# Altium schematic symbol library Python_Imaging_1.SCHLIB: 20 symbols
Pins are listed as number, name and electrical type; pins without a type are passive.

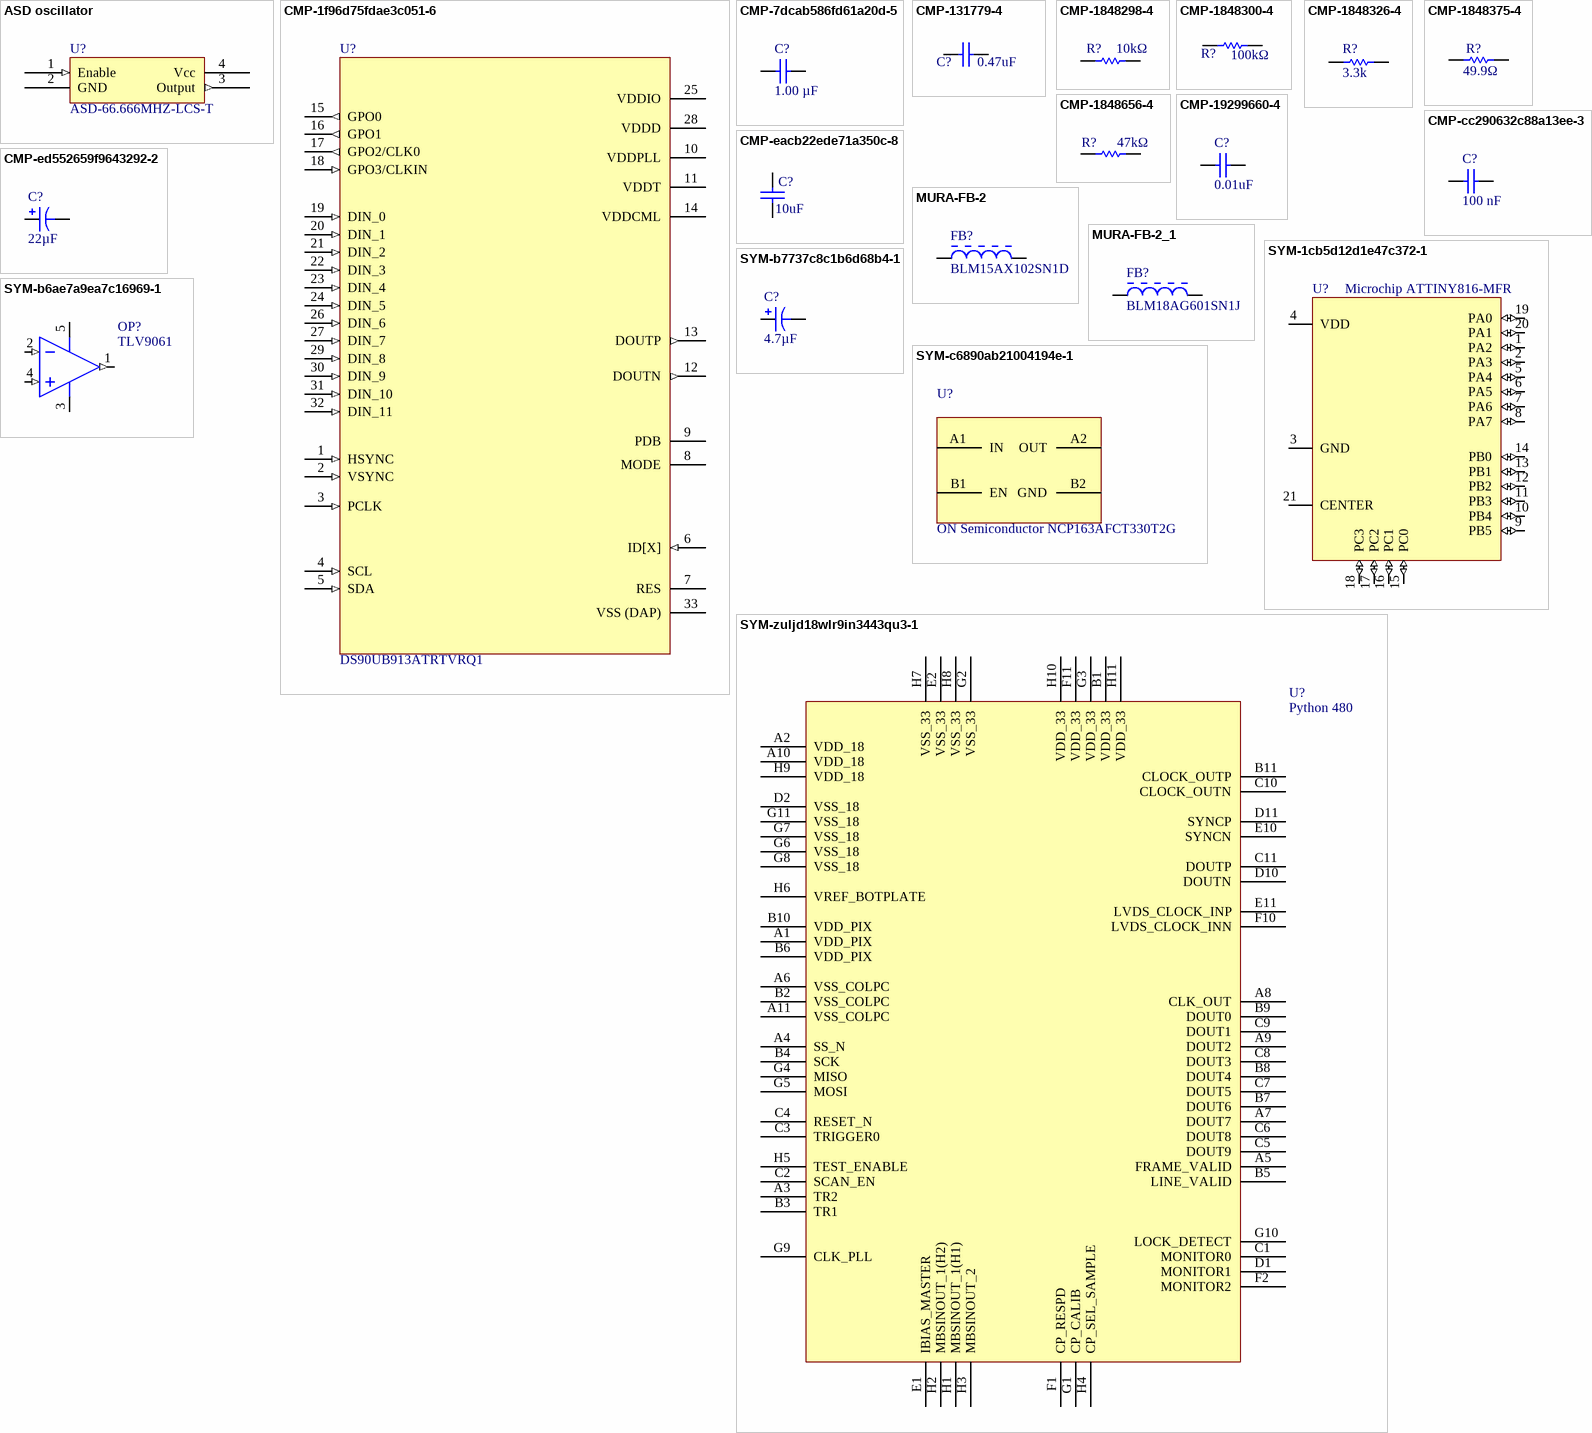
[diagram p0: symbols ASD oscillator to SYM-zuljd18wlr9in3443qu3-1]

## ASD oscillator
designator U?, comment ASD-66.666MHZ-LCS-T
66.666MHz XO (Standard) HCMOS Oscillator 3.3V Enable/Disable 4-SMD, No Lead
footprint ASD
pins: 1 Enable (in), 2 GND (power), 3 Output (out), 4 Vcc (power)

## CMP-1f96d75fdae3c051-6
designator U?, comment DS90UB913ATRTVRQ1
25-100MHz 10/12-Bit FPD-Link III SERIALIZER 32-WQFN -40 to 105; Octopart URL: http://octopart.com/ds90ub913atrtvrq1-texas+instruments-29614099; Packaging: Reel; RoHS: Compliant; Case/Package: WQFN; Number of Pins: 32
footprint PCB-l2nnig1h4ckv44w98gav-1
pins: 1 HSYNC (in), 2 VSYNC (in), 3 PCLK (in), 4 SCL (in), 5 SDA (in), 6 ID[X] (in), 7 RES (power), 8 MODE, 9 PDB, 10 VDDPLL (power), 11 VDDT (power), 12 DOUTN (out), 13 DOUTP (out), 14 VDDCML (power), 15 GPO0 (out), 16 GPO1 (out), 17 GPO2/CLK0 (out), 18 GPO3/CLKIN (in), 19 DIN_0 (in), 20 DIN_1 (in), 21 DIN_2 (in), 22 DIN_3 (in), 23 DIN_4 (in), 24 DIN_5 (in), 25 VDDIO (power), 26 DIN_6 (in), 27 DIN_7 (in), 28 VDDD (power), 29 DIN_8 (in), 30 DIN_9 (in), 31 DIN_10 (in), 32 DIN_11 (in), 33 VSS (DAP) (power)

## CMP-7dcab586fd61a20d-5
designator C?, comment Capacitance: 1.00 µF  (hidden comment: Murata GRM033R60J105MEA2D)
Multilayer Ceramic Capacitor, GRM Series, 1 uF, 20%, X5R, 6.3 V, 0201 [0603 Metric]; Case/Package (SI): 0603; Dielectric Characteristic: X5R; Size-Length: 600 µm; OctopartID: 7dcab586fd61a20d
footprint PCB-v6eq6etc9p7u7qdkgnno-1
pins: 1, 2

## CMP-131779-4
designator C?, comment Capacitance: 0.47uF  (hidden comment: Murata GRM033R60J473KE19D)
Multilayer Ceramic Capacitors MLCC - SMD/SMT 0201 0.047uF 6.3volts X5R 10%; Case/Package (SI): 0603; Voltage Rating (DC): 6.3 V; Capacitance Tolerance: ±10%; Dielectric Characteristic: X5R; RoHS: Compliant; Size-Length: 0.0006 m; Size-Width: 0.0003 m
footprint PCB-v6eq6etc9p7u7qdkgnno-1 (Footprint - Murata GRM033R60J105MEA2D)
footprint CAPC0603X33X15NL03T05
footprint CAPC0603X33X15ML03T05
footprint PCB-087rqtkr6w08eq1n0ce2-1 (Footprint - Murata GRM033R60J473KE19D)
footprint CAPC0603X33X15LL03T05
pins: 1, 2
1 alternate drawing of the same symbol

## CMP-1848298-4
designator R?, comment Resistance: 10kΩ  (hidden comment: Panasonic ERJ-1GEJ103C)
Res Thick Film 0201 10K Ohm 5% 0.05W(1/20W) ±200ppm/C Molded SMD Paper T/R; Lead-Free Status: Lead Free; Voltage Rating (DC): 25.0 V; Case/Package: 0201; Lifecycle Status: Not Listed by Manufacturer; Mounting Style: Surface Mount; Octopart Url: https://octopart.com/erj-1gej103c-panasonic-39841918; Power Rating: 0.05 W; Resistance Tolerance: ±5%; RoHS: Compliant; Size-Height: 0.00023 m; Size-Length: 0.0006 m; Size-Width: 0.0003 m
footprint RESC0603X26X15LL03T05
footprint PCB-7g93mzch2qc2q3jid3ok-1 (Footprint - Panasonic ERJ-1GEF1822C)
footprint RESC0603X26X15ML03T05
footprint RESC0603X26X15NL03T05
footprint PCB-98mrcjv8t9afhsy7j8rk-1 (Footprint - Panasonic ERJ-1GEJ103C)
pins: 1, 2
1 alternate drawing of the same symbol

## CMP-1848300-4
designator R?, comment Resistance: 100kΩ  (hidden comment: Panasonic ERJ-1GEJ104C)
Res Thick Film 0201 100K Ohm 5% 1/20W ±200ppm/C Molded SMD Pressed Carrier T/R; Lifecycle Status: Not Listed by Manufacturer; Octopart Url: https://octopart.com/erj-1gej104c-panasonic-55411467; Size-Height: 0.00023 m; Size-Width: 0.0003 m
footprint RESC0603X26X15LL03T05
footprint PCB-lo47jc2cu2738u5pgzfa-1 (Footprint - Panasonic ERJ-1GEJ104C)
footprint RESC0603X26X15NL03T05
footprint RESC0603X26X15ML03T05
footprint PCB-7g93mzch2qc2q3jid3ok-1 (Footprint - Panasonic ERJ-1GEF1822C)
pins: 1, 2
1 alternate drawing of the same symbol

## CMP-1848326-4
designator R?, comment Resistance: 3.3k  (hidden comment: Panasonic ERJ-1GEJ332C)
Res Thick Film 0201 3.3K Ohm 5% 1/20W ±200ppm/C Molded SMD Paper T/R; Resistance Tolerance: ±5%; Size-Height: 0.00023 m
footprint RESC0603X26X15NL03T05
footprint RESC0603X26X15LL03T05
footprint PCB-7g93mzch2qc2q3jid3ok-1 (Footprint - Panasonic ERJ-1GEF1822C)
footprint RESC0603X26X15ML03T05
footprint PCB-ejq2og6ioiyzx1xtrvfp-1 (Footprint - Panasonic ERJ-1GEJ332C)
pins: 1, 2
1 alternate drawing of the same symbol

## CMP-1848375-4
designator R?, comment Resistance: 49.9Ω  (hidden comment: Panasonic ERJ-1GEF49R9C)
PANASONIC   ERJ-1GEF49R9C   THICK FILM, RESISTOR, 49.9OHM, 10mW, 1%; Power Rating: 0.05 W; Packaging: Cut Tape (CT)
footprint RESC0603X26X15ML03T05
footprint PCB-7g93mzch2qc2q3jid3ok-1 (Footprint - Panasonic ERJ-1GEF1822C)
footprint RESC0603X26X15LL03T05
footprint PCB-12d3cah1es5g4er9g6nn-1 (Footprint - Panasonic ERJ-1GEF49R9C)
footprint RESC0603X26X15NL03T05
pins: 1, 2
1 alternate drawing of the same symbol

## CMP-1848656-4
designator R?, comment Resistance: 47kΩ  (hidden comment: Samsung Electro-Mechanics RC0603F473CS)
RES SMD 47K OHM 1% 1/20W 0201; Lead-Free Status: Lead Free; Power Rating: 0.05 W; Voltage Rating (DC): 15.0 V; Case/Package: 0201; Lifecycle Status: Not Listed by Manufacturer; Mounting Style: Surface Mount; Octopart Url: https://octopart.com/erj-1gef1822c-panasonic-39782564; OctopartID: 543c9f6979fe8bfb; Resistance Tolerance: ±1%; RoHS: Compliant; Size-Height: 0.00023 m; Size-Width: 0.0003 m
footprint PCB-7g93mzch2qc2q3jid3ok-1 (Footprint - Panasonic ERJ-1GEF1822C)
footprint RESC0603X26X15ML03T05
footprint RESC0603X26X15LL03T05
footprint RESC0603X26X15NL03T05
pins: 1, 2
1 alternate drawing of the same symbol

## CMP-19299660-4
designator C?, comment Capacitance: 0.01uF  (hidden comment: Murata GRM033R71A103KA01D)
CAP CER 10000PF 10V 10% X7R 0201; Case/Package: 0201
footprint CAPC0603X33X15LL03T05
footprint CAPC0603X33X15NL03T05
footprint CAPC0603X33X15ML03T05
footprint PCB-v6eq6etc9p7u7qdkgnno-1 (Footprint - Murata GRM033R60J105MEA2D)
pins: 1, 2
1 alternate drawing of the same symbol

## CMP-cc290632c88a13ee-3
designator C?, comment Capacitance: 100 nF  (hidden comment: Murata GRM033C71C104KE14D)
CAP 0.1uF 16VDC X7S 10% SMD 0201; Lead-Free Status: Lead Free; Voltage Rating (DC): 16.0 V; Packaging: Reel; Dielectric Characteristic: X7S; OctopartID: cc290632c88a13ee; Size-Width: 300 µm; Manufacturer Part Number: GRM033C71C104KE14D; Case/Package: 0201; Capacitance Tolerance: ±10%; Size-Length: 600 µm; Octopart URL: http://octopart.com/grm033c71c104ke14d-murata-51454405; Mounting Style: Surface Mount; Size-Thickness: 300 µm; RoHS: Compliant
footprint PCB-v6eq6etc9p7u7qdkgnno-1
pins: 1, 2

## CMP-eacb22ede71a350c-8
designator C?, comment Capacitance: 10uF  (hidden comment: Murata GRM155R60J106ME44D)
Cap Ceramic 10uF 6.3V X5R 20% SMD 0402 85°C Paper T/R
footprint CAPC1005X56X25NL10T15
footprint PCB-uspfzztrpe7hn2xlyjz9-1 (Footprint - Murata GRM155R60J106ME44D)
pins: 1, 2

## CMP-ed552659f9643292-2
designator C?, comment Capacitance: 22µF  (hidden comment: AVX F981A226MMALZT)
Capacitor, SMD, Resin Molded, High CV Undertab, F98 Series, 10Vdc, 22uF, ±20%, Case M (EIA0603), 1.6x0.85x0.8mm, 60ºC...; Octopart URL: http://octopart.com/f981a226mmalzt-avx-33960279; Manufacturer Part Number: F981A226MMALZT; Packaging: Reel; Case/Package: 0603; Capacitance: 22uF; Voltage Rating: 10Vdc
footprint PCB-yxd74t6run51sg1ha7ug-1 (Footprint - AVX F981A226MMALZT)
pins: 1, 2

## MURA-FB-2
designator FB?, comment BLM15AX102SN1D
Chip Ferrite Bead for General Use, 1000 Ohm, 350 mA, -55 to 125 degC, 1 x 0.5 x 0.55 mm SMD, Tape and Reel; Lead-Free Status: Lead Free; Number of Circuits: 1; Resistance: 1000.0 Ω; Octopart Url: https://octopart.com/blm15ax102sn1d-murata-17749155; OctopartID: 6cdea4da9d1bb319; REACH SVHC Compliance: No SVHC; RoHS: Compliant; Size-Length: 0.001 m; Size-Width: 0.0005 m
footprint MURA-BLM15-CHIP-2_V (Chip Ferrite Bead, 2-Leads, Body 1x0.5mm, Height 0.55mm, Reflow, 1.5A max Rated Current)
pins: 1, 2

## MURA-FB-2_1
designator FB?, comment BLM18AG601SN1J
Chip Ferrite Bead for General Use, 600 Ohm, 500 mA, -55 to 125 degC, 1.6 x 0.8 x 0.95 mm SMD, Tape and Reel; Number of Circuits: 1; Resistance: 600.0 Ω; Shielding: No; Manufacturer Part Number: BLM18AG601SN1J; Case/Package: 0603; Mounting Style: Surface Mount; Octopart Url: https://octopart.com/blm18ag601sn1j-murata-7159184; OctopartID: 6eb7a7d07641b170; Packaging: Reel; RoHS: Compliant; Size-Length: 0.0016 m; Size-Width: 0.0008 m
footprint MURA-BLM18-F-H1-CHIP-2_V (Chip Ferrite Bead, 2-Leads, Body 1.6x0.8mm, Height 0.95mm, Flow)
footprint MURA-BLM18-RF-H4-CHIP-2_V (Chip Ferrite Bead, 2-Leads, Body 1.6x0.8mm, Height 0.95mm, Reflow)
pins: 1, 2

## SYM-1cb5d12d1e47c372-1
designator U?, comment Microchip ATTINY816-MFR
8-bit Microcontroller, 20MHz, 8KB, QFN20, Ind 125C, Green, in a 20 pin VQFN pkg; RAM Memory Size: 512 B; Clock Speed: 20.0 MHz; RoHS: Compliant; Manufacturer Part Number: ATTINY816-MFR; Octopart URL: http://octopart.com/attiny816-mfr-microchip-76687252
footprint PCB-hv4cq49t2e9uf1npj5by-1 (Footprint - Microchip ATTINY816-MFR)
pins: 1 PA2 (io), 2 PA3 (io), 3 GND (power), 4 VDD (power), 5 PA4 (io), 6 PA5 (io), 7 PA6 (io), 8 PA7 (io), 9 PB5 (io), 10 PB4 (io), 11 PB3 (io), 12 PB2 (io), 13 PB1 (io), 14 PB0 (io), 15 PC0 (io), 16 PC1 (io), 17 PC2 (io) "17", 18 PC3 (io), 19 PA0 (io), 20 PA1 (io), 21 CENTER (power)

## SYM-b6ae7a9ea7c16969-1
designator OP?, comment TLV9061
World's Smallest Amp 10mhz, Rrio, 1.8v-5.5v Op-Amp Delivers High Performance For Challenging Systems; Manufacturer Part Number: TLV9061IDPWR; Gain Bandwidth Product: 10.0 MHz; Slew Rate: 6.50 V/μs; Input Offset Drift: 300 nV/K; Octopart URL: https://octopart.com/tlv9061idpwr-texas+instruments-87700489; RoHS: Compliant; Operating Temperature: -40.0 °C to 125 °C; OctopartID: b6ae7a9ea7c16969; Lifecycle Status: Pre-Release; Packaging: Cut Tape (CT); Bandwidth: 10.0 MHz; Number of Pins: 5
footprint PCB-mi2hp7vxhhs78mi0aub2-1 (Footprint - Texas Instruments TLV9061IDPWR)
pins: 1 OUT (out), 2 IN- (in), 3 V- (power), 4 IN+ (in), 5 V+ (power)

## SYM-b7737c8c1b6d68b4-1
designator C?, comment Capacitance: 4.7µF  (hidden comment: Cap Pol2)
Cap Tant Solid 4.7uF 10V U CASE 20% (1.1 x 0.6 x 0.55mm) SMD 1106-06 25Ohm 125°C T/R; OctopartID: b7737c8c1b6d68b4; Octopart URL: http://octopart.com/f981a475mualzt-avx-49645944; Voltage - Rated: 10V; Packaging: Tape & Reel (TR)
footprint PCB-t0dwbiosd2m6unyihqym-1 (Footprint - AVX F981A475MUALZT)
pins: 1, 2

## SYM-c6890ab21004194e-1
designator U?, comment ON Semiconductor NCP163AFCT330T2G
LDO Regulator, 250 mA, Ultra-High PSRR, Ultra-Low Noise 3.3 V, Active Discharge
footprint PCB-ng8273kv6qqz2xsov2q1-1 (Footprint - ON Semiconductor NCP163AFCT330T2G)
pins: A1 IN, A2 OUT, B1 EN, B2 GND

## SYM-zuljd18wlr9in3443qu3-1
designator U?, comment Python 480
image sensor from ONSemi
footprint Python 480 (image sensor)
pins: A1 VDD_PIX, A2 VDD_18, A3 TR2, A4 SS_N, A5 FRAME_VALID, A6 VSS_COLPC, A7 DOUT7, A8 CLK_OUT, A9 DOUT2, A10 VDD_18, A11 VSS_COLPC, B1 VDD_33, B2 VSS_COLPC, B3 TR1, B4 SCK, B5 LINE_VALID, B6 VDD_PIX, B7 DOUT6, B8 DOUT4, B9 DOUT0, B10 VDD_PIX, B11 CLOCK_OUTP, C1 MONITOR0, C2 SCAN_EN, C3 TRIGGER0, C4 RESET_N, C5 DOUT9, C6 DOUT8, C7 DOUT5, C8 DOUT3, C9 DOUT1, C10 CLOCK_OUTN, C11 DOUTP, D1 MONITOR1, D2 VSS_18, D10 DOUTN, D11 SYNCP, E1 IBIAS_MASTER, E2 VSS_33, E10 SYNCN, E11 LVDS_CLOCK_INP, F1 CP_RESPD, F2 MONITOR2, F10 LVDS_CLOCK_INN, F11 VDD_33, G1 CP_CALIB, G2 VSS_33, G3 VDD_33, G4 MISO, G5 MOSI, G6 VSS_18, G7 VSS_18, G8 VSS_18, G9 CLK_PLL, G10 LOCK_DETECT, G11 VSS_18, H1 MBSINOUT_1(H1), H2 MBSINOUT_1(H2), H3 MBSINOUT_2, H4 CP_SEL_SAMPLE, H5 TEST_ENABLE, H6 VREF_BOTPLATE, H7 VSS_33, H8 VSS_33, H9 VDD_18, H10 VDD_33, H11 VDD_33